# EAGLE library part DIECIMILIA_PRO_MINI (library diecimilia_pro_mini)
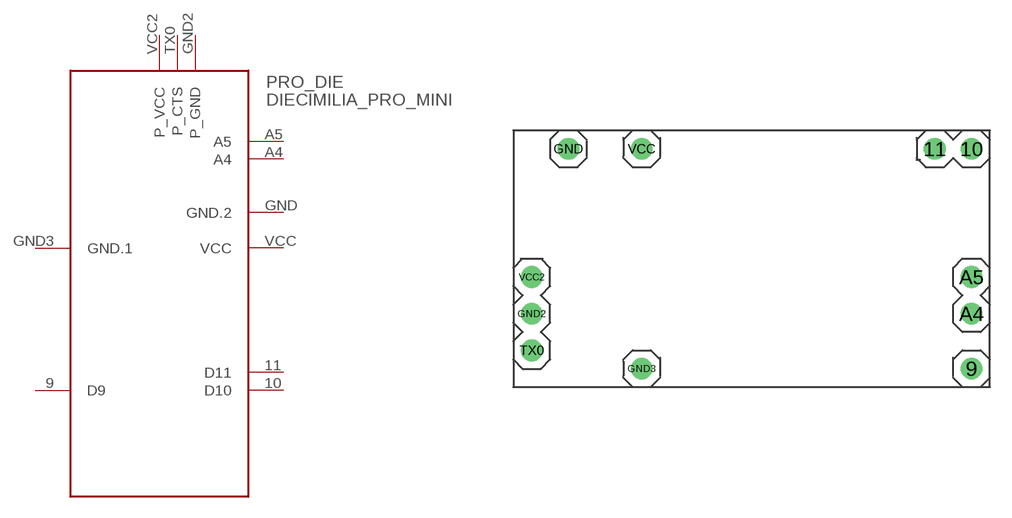
[diagram p0: symbol with the pads of ARDUINO-PRO-MINI; footprint ARDUINO-PRO-MINI]

Designator prefix PRO_DIE

## DIECIMILIA_PRO_MINI  [ARDUINO-PRO-MINI]
9  D9
10  D10
11  D11
A4  A4
A5  A5
GND  GND.2  pwr
GND2  P_GND
GND3  GND.1  pwr
TX0  P_CTS
VCC  VCC  pwr
VCC2  P_VCC

## Footprint ARDUINO-PRO-MINI (pad centres in mm)
Arduino Pro Mini
drill 1: 9 15.24,-7.62; 10 15.24,7.62; 11 12.7,7.62; A4 15.24,-3.81; A5 15.24,-1.27; GND -12.7,7.62; GND2 -15.24,-3.81; GND3 -7.62,-7.62; TX0 -15.24,-6.35; VCC -7.62,7.62; VCC2 -15.24,-1.27